# EAGLE library part MCP4726A0T-E/CH (library mcp4726)
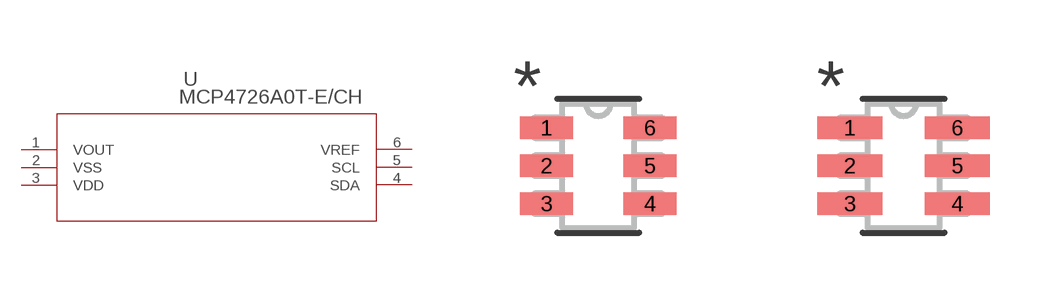
[diagram p0: symbol with the pads of SOT-23-6_MC_MCH; footprints SOT-23-6_MC_MCH, SOT-23-6_MC_MCH-M]

Designator prefix U

## MCP4726A0T-E/CHSOT-23-6_MC_MCH (Copyright: Copyright (C) 2023 Ultra Librarian. All rights reserved.; Manufacturer_Part_Number: MCP4726A0T-E/CH; Mfr_Name: Microchip)  [SOT-23-6_MC_MCH]
1  VOUT  out
2  VSS  pwr
3  VDD  pwr
4  SDA
5  SCL  in
6  VREF  pas

## MCP4726A0T-E/CHSOT-23-6_MC_MCH-M (Copyright: Copyright (C) 2023 Ultra Librarian. All rights reserved.; Manufacturer_Part_Number: MCP4726A0T-E/CH; Mfr_Name: Microchip)  [SOT-23-6_MC_MCH-M]
Pads as for SOT-23-6_MC_MCH

## MCP4726A0T-E/CHSOT-23-6_MC_MCH-L (Copyright: Copyright (C) 2023 Ultra Librarian. All rights reserved.; Manufacturer_Part_Number: MCP4726A0T-E/CH; Mfr_Name: Microchip)  [SOT-23-6_MC_MCH-L]
Pads as for SOT-23-6_MC_MCH

## Footprint SOT-23-6_MC_MCH (pad centres in mm)
smd 1.321 x 0.559: 1 -1.295,0.95; 2 -1.295,0; 3 -1.295,-0.95; 4 1.295,-0.95; 5 1.295,0; 6 1.295,0.95

## Footprint SOT-23-6_MC_MCH-M (pad centres in mm)
smd 1.626 x 0.559: 1 -1.346,0.95; 2 -1.346,0; 3 -1.346,-0.95; 4 1.346,-0.95; 5 1.346,0; 6 1.346,0.95

## Footprint SOT-23-6_MC_MCH-L (pad centres in mm)
smd 1.016 x 0.508: 1 -1.245,0.95; 2 -1.245,0; 3 -1.245,-0.95; 4 1.245,-0.95; 5 1.245,0; 6 1.245,0.95